# Altium footprint library AK4619VN.PcbLib: 3 footprints
Each footprint in its own frame and in the unit in brackets; x right, y up, seen from the top. Pads: shape width x height; smd on the part's side, far side on the other; paste and mask are expansions set on the pad; w line width, h text height; cw(c..) or ccw(c..) is an arc to the next point about the centre after c.
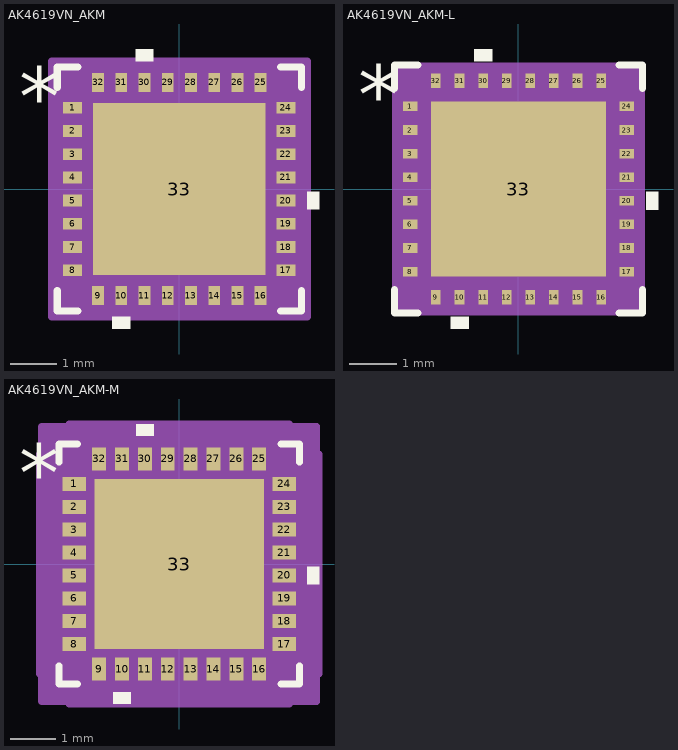
[diagram p0: the footprints below, top view; thin cyan lines are the x and y axes]

## AK4619VN_AKM [mil]
pads (33):
  rect 16x10 smd paste+0 mask+0: 1(-90.43,68.9) 2(-90.43,49.21) 3(-90.43,29.53) 4(-90.43,9.84) 5(-90.43,-9.84) 6(-90.43,-29.53) 7(-90.43,-49.21) 8(-90.43,-68.9) 17(90.43,-68.9) 18(90.43,-49.21) 19(90.43,-29.53) 20(90.43,-9.84) 21(90.43,9.84) 22(90.43,29.53) 23(90.43,49.21) 24(90.43,68.9)
  rect 10x16 smd paste+0 mask+0: 9(-68.9,-90.43) 10(-49.21,-90.43) 11(-29.53,-90.43) 12(-9.84,-90.43) 13(9.84,-90.43) 14(29.53,-90.43) 15(49.21,-90.43) 16(68.9,-90.43) 25(68.9,90.43) 26(49.21,90.43) 27(29.53,90.43) 28(9.84,90.43) 29(-9.84,90.43) 30(-29.53,90.43) 31(-49.21,90.43) 32(-68.9,90.43)
  rect 146x146 smd paste-73 mask+0: 33(0,0)
Top Overlay:
  region: -41.71,-108.43 -56.71,-108.43 -56.71,-118.43 -41.71,-118.43
  region: 108.43,-2.34 118.43,-2.34 118.43,-17.34 108.43,-17.34
  region: -22.03,108.43 -37.03,108.43 -37.03,118.43 -22.03,118.43
  lines w6: -103.5,-85.97 -103.5,-103.5 -85.97,-103.5 ; -103.5,85.97 -103.5,103.5 -85.97,103.5 ; 85.97,-103.5 103.5,-103.5 103.5,-85.97 ; 85.97,103.5 103.5,103.5 103.5,85.97
  text "*" at -135.93,53.74 h50
Top Paste:
  region: -3.94,69.06 -69.06,69.06 -69.06,3.94 -3.94,3.94
  region: -3.94,-3.94 -69.06,-3.94 -69.06,-69.06 -3.94,-69.06
  region: 69.06,69.06 3.94,69.06 3.94,3.94 69.06,3.94
  region: 69.06,-3.94 3.94,-3.94 3.94,-69.06 69.06,-69.06
Mechanical 13:
  lines w1: -98.5,48.5 -48.5,98.5 ; -98.5,-98.5 98.5,-98.5 ; -98.5,-98.5 -98.5,98.5 ; -98.5,-98.5 -98.5,-98.5 ; -98.5,98.5 98.5,98.5 ; -98.5,98.5 -98.5,98.5 ; 98.5,-98.5 98.5,-98.5 ; 98.5,-98.5 98.5,98.5 ; 98.5,98.5 98.5,98.5 ; -98.5,-73.9 -98.5,-63.9 -98.43,-63.9 -98.43,-73.9 -98.5,-73.9 ; -98.5,-54.21 -98.5,-44.21 -98.43,-44.21 -98.43,-54.21 -98.5,-54.21 ; -98.5,-34.53 -98.5,-24.53 -98.43,-24.53 -98.43,-34.53 -98.5,-34.53 ; -98.5,-14.84 -98.5,-4.84 -98.43,-4.84 -98.43,-14.84 -98.5,-14.84 ; -98.5,4.84 -98.5,14.84 -98.43,14.84 -98.43,4.84 -98.5,4.84 ; -98.5,24.53 -98.5,34.53 -98.43,34.53 -98.43,24.53 -98.5,24.53 ; -98.5,44.21 -98.5,54.21 -98.43,54.21 -98.43,44.21 -98.5,44.21 ; -98.5,63.9 -98.5,73.9 -98.43,73.9 -98.43,63.9 -98.5,63.9 ; -73.9,-98.5 -63.9,-98.5 -63.9,-98.43 -73.9,-98.43 -73.9,-98.5 ; -73.9,98.43 -63.9,98.43 -63.9,98.5 -73.9,98.5 -73.9,98.43 ; -54.21,-98.5 -44.21,-98.5 -44.21,-98.43 -54.21,-98.43 -54.21,-98.5 ; -54.21,98.43 -44.21,98.43 -44.21,98.5 -54.21,98.5 -54.21,98.43 ; -34.53,-98.5 -24.53,-98.5 -24.53,-98.43 -34.53,-98.43 -34.53,-98.5 ; -34.53,98.43 -24.53,98.43 -24.53,98.5 -34.53,98.5 -34.53,98.43 ; -14.84,-98.5 -4.84,-98.5 -4.84,-98.43 -14.84,-98.43 -14.84,-98.5 ; -14.84,98.43 -4.84,98.43 -4.84,98.5 -14.84,98.5 -14.84,98.43 ; 4.84,-98.5 14.84,-98.5 14.84,-98.43 4.84,-98.43 4.84,-98.5 ; 4.84,98.43 14.84,98.43 14.84,98.5 4.84,98.5 4.84,98.43 ; 24.53,-98.5 34.53,-98.5 34.53,-98.43 24.53,-98.43 24.53,-98.5 ; 24.53,98.43 34.53,98.43 34.53,98.5 24.53,98.5 24.53,98.43 ; 44.21,-98.5 54.21,-98.5 54.21,-98.43 44.21,-98.43 44.21,-98.5 ; 44.21,98.43 54.21,98.43 54.21,98.5 44.21,98.5 44.21,98.43 ; 63.9,-98.5 73.9,-98.5 73.9,-98.43 63.9,-98.43 63.9,-98.5 ; 63.9,98.43 73.9,98.43 73.9,98.5 63.9,98.5 63.9,98.43 ; 98.43,-73.9 98.5,-73.9 98.5,-63.9 98.43,-63.9 98.43,-73.9 ; 98.43,-54.21 98.5,-54.21 98.5,-44.21 98.43,-44.21 98.43,-54.21 ; 98.43,-34.53 98.5,-34.53 98.5,-24.53 98.43,-24.53 98.43,-34.53 ; 98.43,-14.84 98.5,-14.84 98.5,-4.84 98.43,-4.84 98.43,-14.84 ; 98.43,4.84 98.5,4.84 98.5,14.84 98.43,14.84 98.43,4.84 ; 98.43,24.53 98.5,24.53 98.5,34.53 98.43,34.53 98.43,24.53 ; 98.43,44.21 98.5,44.21 98.5,54.21 98.43,54.21 98.43,44.21 ; 98.43,63.9 98.5,63.9 98.5,73.9 98.43,73.9 98.43,63.9
  text "*" at -94.93,53.74 h50
Mechanical 15:
  region: -83.9,-108.5 -108.5,-108.5 -108.5,-83.9 -108.5,83.9 -108.5,108.5 -83.9,108.5 83.9,108.5 108.5,108.5 108.5,83.9 108.5,-83.9 108.5,-108.5 83.9,-108.5
  lines w6: -108.5,-83.9 -108.5,-108.5 -83.9,-108.5 ; -108.5,-83.9 -108.5,-83.9 ; -108.5,-83.9 -108.5,83.9 ; -108.5,83.9 -108.5,83.9 ; -108.5,83.9 -108.5,108.5 -83.9,108.5 ; -83.9,-108.5 83.9,-108.5 ; -83.9,-108.5 -83.9,-108.5 ; -83.9,108.5 -83.9,108.5 ; -83.9,108.5 83.9,108.5 ; 83.9,-108.5 108.5,-108.5 108.5,-83.9 ; 83.9,-108.5 83.9,-108.5 ; 83.9,108.5 83.9,108.5 ; 83.9,108.5 108.5,108.5 108.5,83.9 ; 108.5,-83.9 108.5,83.9 ; 108.5,-83.9 108.5,-83.9 ; 108.5,83.9 108.5,83.9
3D body "AK4619VN_AKM.step": height 30.12, standoff 0, extent -98.5,-98.5 98.5,98.5

## AK4619VN_AKM-L [mil]
pads (33):
  rect 12x8 smd paste+0 mask+0: 1(-90.43,68.9) 2(-90.43,49.21) 3(-90.43,29.53) 4(-90.43,9.84) 5(-90.43,-9.84) 6(-90.43,-29.53) 7(-90.43,-49.21) 8(-90.43,-68.9) 17(90.43,-68.9) 18(90.43,-49.21) 19(90.43,-29.53) 20(90.43,-9.84) 21(90.43,9.84) 22(90.43,29.53) 23(90.43,49.21) 24(90.43,68.9)
  rect 8x12 smd paste+0 mask+0: 9(-68.9,-90.43) 10(-49.21,-90.43) 11(-29.53,-90.43) 12(-9.84,-90.43) 13(9.84,-90.43) 14(29.53,-90.43) 15(49.21,-90.43) 16(68.9,-90.43) 25(68.9,90.43) 26(49.21,90.43) 27(29.53,90.43) 28(9.84,90.43) 29(-9.84,90.43) 30(-29.53,90.43) 31(-49.21,90.43) 32(-68.9,90.43)
  rect 146x146 smd paste-73 mask+0: 33(0,0)
Top Overlay:
  region: -41.71,-106.43 -56.71,-106.43 -56.71,-116.43 -41.71,-116.43
  region: 106.43,-2.34 116.43,-2.34 116.43,-17.34 106.43,-17.34
  region: -22.03,106.43 -37.03,106.43 -37.03,116.43 -22.03,116.43
  lines w6: -103.5,-83.92 -103.5,-103.5 -83.92,-103.5 ; -103.5,83.92 -103.5,103.5 -83.92,103.5 ; 83.92,-103.5 103.5,-103.5 103.5,-83.92 ; 83.92,103.5 103.5,103.5 103.5,83.92
  text "*" at -133.93,53.74 h50
Top Paste:
  region: -3.94,69.06 -69.06,69.06 -69.06,3.94 -3.94,3.94
  region: -3.94,-3.94 -69.06,-3.94 -69.06,-69.06 -3.94,-69.06
  region: 69.06,69.06 3.94,69.06 3.94,3.94 69.06,3.94
  region: 69.06,-3.94 3.94,-3.94 3.94,-69.06 69.06,-69.06
Mechanical 13:
  lines w1: -98.5,48.5 -48.5,98.5 ; -98.5,-98.5 98.5,-98.5 ; -98.5,-98.5 -98.5,98.5 ; -98.5,-98.5 -98.5,-98.5 ; -98.5,98.5 98.5,98.5 ; -98.5,98.5 -98.5,98.5 ; 98.5,-98.5 98.5,-98.5 ; 98.5,-98.5 98.5,98.5 ; 98.5,98.5 98.5,98.5 ; -98.5,-73.9 -98.5,-63.9 -98.43,-63.9 -98.43,-73.9 -98.5,-73.9 ; -98.5,-54.21 -98.5,-44.21 -98.43,-44.21 -98.43,-54.21 -98.5,-54.21 ; -98.5,-34.53 -98.5,-24.53 -98.43,-24.53 -98.43,-34.53 -98.5,-34.53 ; -98.5,-14.84 -98.5,-4.84 -98.43,-4.84 -98.43,-14.84 -98.5,-14.84 ; -98.5,4.84 -98.5,14.84 -98.43,14.84 -98.43,4.84 -98.5,4.84 ; -98.5,24.53 -98.5,34.53 -98.43,34.53 -98.43,24.53 -98.5,24.53 ; -98.5,44.21 -98.5,54.21 -98.43,54.21 -98.43,44.21 -98.5,44.21 ; -98.5,63.9 -98.5,73.9 -98.43,73.9 -98.43,63.9 -98.5,63.9 ; -73.9,-98.5 -63.9,-98.5 -63.9,-98.43 -73.9,-98.43 -73.9,-98.5 ; -73.9,98.43 -63.9,98.43 -63.9,98.5 -73.9,98.5 -73.9,98.43 ; -54.21,-98.5 -44.21,-98.5 -44.21,-98.43 -54.21,-98.43 -54.21,-98.5 ; -54.21,98.43 -44.21,98.43 -44.21,98.5 -54.21,98.5 -54.21,98.43 ; -34.53,-98.5 -24.53,-98.5 -24.53,-98.43 -34.53,-98.43 -34.53,-98.5 ; -34.53,98.43 -24.53,98.43 -24.53,98.5 -34.53,98.5 -34.53,98.43 ; -14.84,-98.5 -4.84,-98.5 -4.84,-98.43 -14.84,-98.43 -14.84,-98.5 ; -14.84,98.43 -4.84,98.43 -4.84,98.5 -14.84,98.5 -14.84,98.43 ; 4.84,-98.5 14.84,-98.5 14.84,-98.43 4.84,-98.43 4.84,-98.5 ; 4.84,98.43 14.84,98.43 14.84,98.5 4.84,98.5 4.84,98.43 ; 24.53,-98.5 34.53,-98.5 34.53,-98.43 24.53,-98.43 24.53,-98.5 ; 24.53,98.43 34.53,98.43 34.53,98.5 24.53,98.5 24.53,98.43 ; 44.21,-98.5 54.21,-98.5 54.21,-98.43 44.21,-98.43 44.21,-98.5 ; 44.21,98.43 54.21,98.43 54.21,98.5 44.21,98.5 44.21,98.43 ; 63.9,-98.5 73.9,-98.5 73.9,-98.43 63.9,-98.43 63.9,-98.5 ; 63.9,98.43 73.9,98.43 73.9,98.5 63.9,98.5 63.9,98.43 ; 98.43,-73.9 98.5,-73.9 98.5,-63.9 98.43,-63.9 98.43,-73.9 ; 98.43,-54.21 98.5,-54.21 98.5,-44.21 98.43,-44.21 98.43,-54.21 ; 98.43,-34.53 98.5,-34.53 98.5,-24.53 98.43,-24.53 98.43,-34.53 ; 98.43,-14.84 98.5,-14.84 98.5,-4.84 98.43,-4.84 98.43,-14.84 ; 98.43,4.84 98.5,4.84 98.5,14.84 98.43,14.84 98.43,4.84 ; 98.43,24.53 98.5,24.53 98.5,34.53 98.43,34.53 98.43,24.53 ; 98.43,44.21 98.5,44.21 98.5,54.21 98.43,54.21 98.43,44.21 ; 98.43,63.9 98.5,63.9 98.5,73.9 98.43,73.9 98.43,63.9
  text "*" at -96.93,53.74 h50
Mechanical 15:
  region: -76.9,-102.5 -102.5,-102.5 -102.5,-76.9 -102.5,76.9 -102.5,102.5 -76.9,102.5 76.9,102.5 102.5,102.5 102.5,76.9 102.5,-76.9 102.5,-102.5 76.9,-102.5
  lines w6: -102.5,-76.9 -102.5,-102.5 -76.9,-102.5 ; -102.5,-76.9 -102.5,-76.9 ; -102.5,-76.9 -102.5,76.9 ; -102.5,76.9 -102.5,76.9 ; -102.5,76.9 -102.5,102.5 -76.9,102.5 ; -76.9,-102.5 76.9,-102.5 ; -76.9,-102.5 -76.9,-102.5 ; -76.9,102.5 -76.9,102.5 ; -76.9,102.5 76.9,102.5 ; 76.9,-102.5 102.5,-102.5 102.5,-76.9 ; 76.9,-102.5 76.9,-102.5 ; 76.9,102.5 76.9,102.5 ; 76.9,102.5 102.5,102.5 102.5,76.9 ; 102.5,-76.9 102.5,76.9 ; 102.5,-76.9 102.5,-76.9 ; 102.5,76.9 102.5,76.9
3D body "AK4619VN_AKM.step": height 30.12, standoff 0, extent -98.5,-98.5 98.5,98.5

## AK4619VN_AKM-M [mil]
pads (33):
  rect 20x12 smd paste+0 mask+0: 1(-90.43,68.9) 2(-90.43,49.21) 3(-90.43,29.53) 4(-90.43,9.84) 5(-90.43,-9.84) 6(-90.43,-29.53) 7(-90.43,-49.21) 8(-90.43,-68.9) 17(90.43,-68.9) 18(90.43,-49.21) 19(90.43,-29.53) 20(90.43,-9.84) 21(90.43,9.84) 22(90.43,29.53) 23(90.43,49.21) 24(90.43,68.9)
  rect 12x20 smd paste+0 mask+0: 9(-68.9,-90.43) 10(-49.21,-90.43) 11(-29.53,-90.43) 12(-9.84,-90.43) 13(9.84,-90.43) 14(29.53,-90.43) 15(49.21,-90.43) 16(68.9,-90.43) 25(68.9,90.43) 26(49.21,90.43) 27(29.53,90.43) 28(9.84,90.43) 29(-9.84,90.43) 30(-29.53,90.43) 31(-49.21,90.43) 32(-68.9,90.43)
  rect 146x146 smd paste-73 mask+0: 33(0,0)
Top Overlay:
  region: -41.71,-110.43 -56.71,-110.43 -56.71,-120.43 -41.71,-120.43
  region: 110.43,-2.34 120.43,-2.34 120.43,-17.34 110.43,-17.34
  region: -22.03,110.43 -37.03,110.43 -37.03,120.43 -22.03,120.43
  lines w6: -103.5,-87.63 -103.5,-103.5 -87.63,-103.5 ; -103.5,87.63 -103.5,103.5 -87.63,103.5 ; 87.63,-103.5 103.5,-103.5 103.5,-87.63 ; 87.63,103.5 103.5,103.5 103.5,87.63
  text "*" at -137.93,53.74 h50
Top Paste:
  region: -3.94,69.06 -69.06,69.06 -69.06,3.94 -3.94,3.94
  region: -3.94,-3.94 -69.06,-3.94 -69.06,-69.06 -3.94,-69.06
  region: 69.06,69.06 3.94,69.06 3.94,3.94 69.06,3.94
  region: 69.06,-3.94 3.94,-3.94 3.94,-69.06 69.06,-69.06
Mechanical 13:
  lines w1: -98.5,48.5 -48.5,98.5 ; -98.5,-98.5 98.5,-98.5 ; -98.5,-98.5 -98.5,98.5 ; -98.5,-98.5 -98.5,-98.5 ; -98.5,98.5 98.5,98.5 ; -98.5,98.5 -98.5,98.5 ; 98.5,-98.5 98.5,-98.5 ; 98.5,-98.5 98.5,98.5 ; 98.5,98.5 98.5,98.5 ; -98.5,-73.9 -98.5,-63.9 -98.43,-63.9 -98.43,-73.9 -98.5,-73.9 ; -98.5,-54.21 -98.5,-44.21 -98.43,-44.21 -98.43,-54.21 -98.5,-54.21 ; -98.5,-34.53 -98.5,-24.53 -98.43,-24.53 -98.43,-34.53 -98.5,-34.53 ; -98.5,-14.84 -98.5,-4.84 -98.43,-4.84 -98.43,-14.84 -98.5,-14.84 ; -98.5,4.84 -98.5,14.84 -98.43,14.84 -98.43,4.84 -98.5,4.84 ; -98.5,24.53 -98.5,34.53 -98.43,34.53 -98.43,24.53 -98.5,24.53 ; -98.5,44.21 -98.5,54.21 -98.43,54.21 -98.43,44.21 -98.5,44.21 ; -98.5,63.9 -98.5,73.9 -98.43,73.9 -98.43,63.9 -98.5,63.9 ; -73.9,-98.5 -63.9,-98.5 -63.9,-98.43 -73.9,-98.43 -73.9,-98.5 ; -73.9,98.43 -63.9,98.43 -63.9,98.5 -73.9,98.5 -73.9,98.43 ; -54.21,-98.5 -44.21,-98.5 -44.21,-98.43 -54.21,-98.43 -54.21,-98.5 ; -54.21,98.43 -44.21,98.43 -44.21,98.5 -54.21,98.5 -54.21,98.43 ; -34.53,-98.5 -24.53,-98.5 -24.53,-98.43 -34.53,-98.43 -34.53,-98.5 ; -34.53,98.43 -24.53,98.43 -24.53,98.5 -34.53,98.5 -34.53,98.43 ; -14.84,-98.5 -4.84,-98.5 -4.84,-98.43 -14.84,-98.43 -14.84,-98.5 ; -14.84,98.43 -4.84,98.43 -4.84,98.5 -14.84,98.5 -14.84,98.43 ; 4.84,-98.5 14.84,-98.5 14.84,-98.43 4.84,-98.43 4.84,-98.5 ; 4.84,98.43 14.84,98.43 14.84,98.5 4.84,98.5 4.84,98.43 ; 24.53,-98.5 34.53,-98.5 34.53,-98.43 24.53,-98.43 24.53,-98.5 ; 24.53,98.43 34.53,98.43 34.53,98.5 24.53,98.5 24.53,98.43 ; 44.21,-98.5 54.21,-98.5 54.21,-98.43 44.21,-98.43 44.21,-98.5 ; 44.21,98.43 54.21,98.43 54.21,98.5 44.21,98.5 44.21,98.43 ; 63.9,-98.5 73.9,-98.5 73.9,-98.43 63.9,-98.43 63.9,-98.5 ; 63.9,98.43 73.9,98.43 73.9,98.5 63.9,98.5 63.9,98.43 ; 98.43,-73.9 98.5,-73.9 98.5,-63.9 98.43,-63.9 98.43,-73.9 ; 98.43,-54.21 98.5,-54.21 98.5,-44.21 98.43,-44.21 98.43,-54.21 ; 98.43,-34.53 98.5,-34.53 98.5,-24.53 98.43,-24.53 98.43,-34.53 ; 98.43,-14.84 98.5,-14.84 98.5,-4.84 98.43,-4.84 98.43,-14.84 ; 98.43,4.84 98.5,4.84 98.5,14.84 98.43,14.84 98.43,4.84 ; 98.43,24.53 98.5,24.53 98.5,34.53 98.43,34.53 98.43,24.53 ; 98.43,44.21 98.5,44.21 98.5,54.21 98.43,54.21 98.43,44.21 ; 98.43,63.9 98.5,63.9 98.5,73.9 98.43,73.9 98.43,63.9
  text "*" at -92.93,53.74 h50
Mechanical 15:
  region: -94.9,-118.5 -118.5,-118.5 -118.5,-94.9 -120.43,-94.9 -120.43,94.9 -118.5,94.9 -118.5,118.5 -94.9,118.5 -94.9,120.43 94.9,120.43 94.9,118.5 118.5,118.5 118.5,94.9 120.43,94.9 120.43,-94.9 118.5,-94.9 118.5,-118.5 94.9,-118.5 94.9,-120.43 -94.9,-120.43
  lines w6: -120.43,-94.9 -118.5,-94.9 -118.5,-118.5 -94.9,-118.5 -94.9,-120.43 94.9,-120.43 94.9,-118.5 118.5,-118.5 118.5,-94.9 120.43,-94.9 120.43,94.9 118.5,94.9 118.5,118.5 94.9,118.5 94.9,120.43 -94.9,120.43 -94.9,118.5 -118.5,118.5 -118.5,94.9 -120.43,94.9 -120.43,-94.9
3D body "AK4619VN_AKM.step": height 30.12, standoff 0, extent -98.5,-98.5 98.5,98.5